# EAGLE library part CONNECTOR-9 (library eagle-library-engr-245-s22)
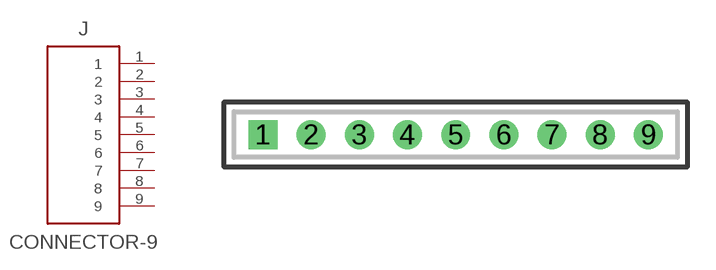
[diagram p20: symbol with the pads of ESQ-109-XX-X-S; footprint ESQ-109-XX-X-S]

Designator prefix J

## CONNECTOR-9  [ESQ-109-XX-X-S]
1  1
2  2
3  3
4  4
5  5
6  6
7  7
8  8
9  9

## Footprint ESQ-109-XX-X-S (pad centres in mm)
drill 1.016 pad 1.524 square: 1 -10.16,0
drill 1.016 pad 1.524: 2 -7.62,0; 3 -5.08,0; 4 -2.54,0; 5 0,0; 6 2.54,0; 7 5.08,0; 8 7.62,0; 9 10.16,0